# Altium footprint library HVQFN36.PcbLib: 1 footprints
Each footprint in its own frame and in the unit in brackets; x right, y up, seen from the top. Pads: shape width x height; smd on the part's side, far side on the other; paste and mask are expansions set on the pad; w line width, h text height; cw(c..) or ccw(c..) is an arc to the next point about the centre after c.
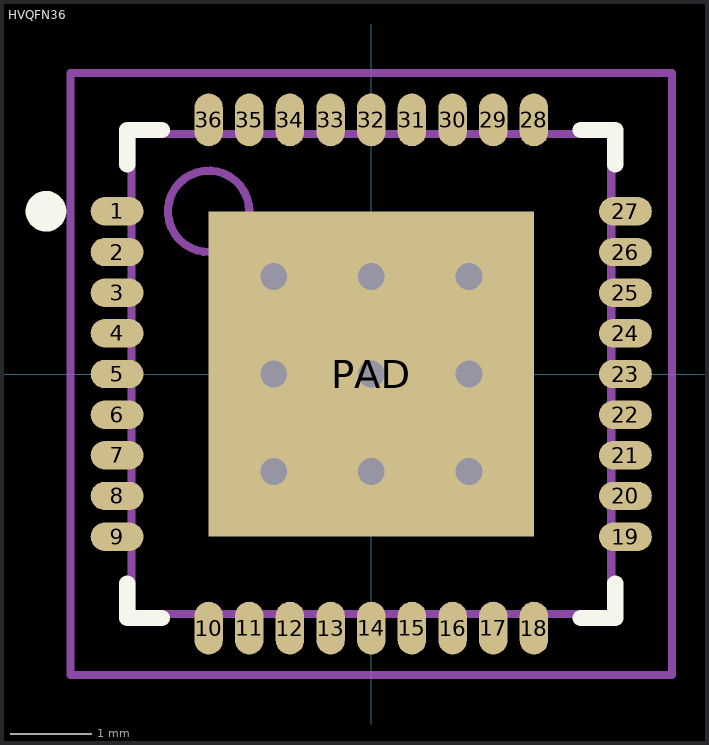
[diagram p0: the footprint, top view; thin cyan lines are the x and y axes]

## HVQFN36 [mm] "plastic themal enhanced very thin quad flat package; no leads; 36 terminals; body 6 x 6 x 0.85mm"
height 1
pads (37):
  oval 0.65x0.35 smd: 1(-3.125,2) 2(-3.125,1.5) 3(-3.125,1) 4(-3.125,0.5) 5(-3.125,0) 6(-3.125,-0.5) 7(-3.125,-1) 8(-3.125,-1.5) 9(-3.125,-2) 19(3.125,-2) 20(3.125,-1.5) 21(3.125,-1) 22(3.125,-0.5) 23(3.125,0) 24(3.125,0.5) 25(3.125,1) 26(3.125,1.5) 27(3.125,2)
  oval 0.35x0.65 smd: 10(-2,-3.125) 11(-1.5,-3.125) 12(-1,-3.125) 13(-0.5,-3.125) 14(0,-3.125) 15(0.5,-3.125) 16(1,-3.125) 17(1.5,-3.125) 18(2,-3.125) 28(2,3.125) 29(1.5,3.125) 30(1,3.125) 31(0.5,3.125) 32(0,3.125) 33(-0.5,3.125) 34(-1,3.125) 35(-1.5,3.125) 36(-2,3.125)
  rect 4x4 smd: PAD(0,0)
via 1.2,-1.2 diameter 0.66 hole 0.33
via 0,-1.2 diameter 0.66 hole 0.33
via -1.2,-1.2 diameter 0.66 hole 0.33
via 1.2,0 diameter 0.66 hole 0.33
via 0,0 diameter 0.66 hole 0.33
via -1.2,0 diameter 0.66 hole 0.33
via 1.2,1.2 diameter 0.66 hole 0.33
via 0,1.2 diameter 0.66 hole 0.33
via -1.2,1.2 diameter 0.66 hole 0.33
Top Overlay:
  circle w0.25: c-4,2 r0.125
  lines w0.2: -3,-2.575 -3,-3 -2.575,-3 ; -3,2.575 -3,3 -2.575,3 ; 2.575,-3 3,-3 3,-2.575 ; 2.575,3 3,3 3,2.575
Mechanical 13:
  circle w0.1: c-2,2 r0.5
  lines w0.1: -2.95,-2.95 2.95,-2.95 2.95,2.95 -2.95,2.95 -2.95,-2.95
Mechanical 15:
  lines w0.1: -0.5,0 0.5,0 ; 0,-0.5 0,0.5 ; -3.7,-3.7 3.7,-3.7 3.7,3.7 -3.7,3.7 -3.7,-3.7
3D body: height 1, standoff 0.05, extent -2.95,-2.95 2.95,2.95